# Altium schematic symbol library diodes-inc-opamp.SchLib: 5 symbols
Pins are listed as number, name and electrical type; pins without a type are passive.

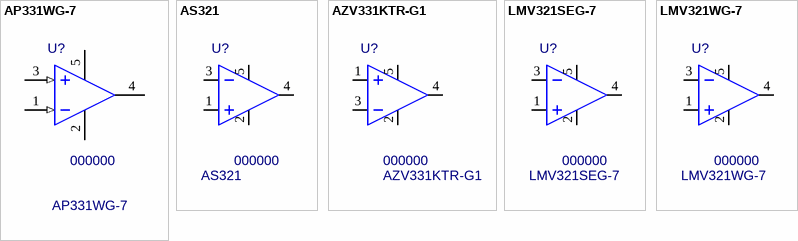
[diagram p0: symbols AP331WG-7 to LMV321WG-7]

## AP331WG-7
designator U?, comment 000000  value AP331WG-7
Single Differential Comparator; MF: Diodes Inc; Package: SOT23-5; PN: 000000; ExtraInfo: *
footprint SOT23-5-M (SOT23, 5-Leads, Body 3.0x3.0mm (max), Pitch 0.95mm, IPC Medium Density)
pins: 1 IN- (in), 2 GND (power), 3 IN+ (in), 4 OUT (oc), 5 VCC (power)

## AS321
designator U?, comment 000000  value AS321
General Purpose, 600KHz, 36V Operational Amplifier; MF PN: AS321KTR-G1; MF: Diodes Inc; Package: SOT25; PN: 000000; ExtraInfo: *; Price: 0.09846; Digi-Key PN: AS321KTR-G1DICT-ND
footprint SOT23-5-M (SOT23, 5-Leads, Body 3.0x3.0mm (max), Pitch 0.95mm, IPC Medium Density)
pins: 1 IN+, 2 V- (power), 3 IN-, 4 OUT, 5 V+ (power)

## AZV331KTR-G1
designator U?, comment 000000  value AZV331KTR-G1
Single Differential Comparator, %V, Open-Collector; MF: Diodes Inc; Package: SOT23-5; PN: 000000; ExtraInfo: *
footprint SOT23-5-M (SOT23, 5-Leads, Body 3.0x3.0mm (max), Pitch 0.95mm, IPC Medium Density)
pins: 1 IN+, 2 GND (power), 3 IN-, 4 OUT (oc), 5 VCC (power)

## LMV321SEG-7
designator U?, comment 000000  value LMV321SEG-7
General Purpose, Low Voltage, Rail-to-Rail Output Operational Amplifier; MF: Diodes Inc; Package: SOT-353; PN: 000000; ExtraInfo: *
footprint SOT-353 (SOT23, 5-Leads, Body 2.2x2.2mm (max), Pitch 0.65mm, IPC High Density)
pins: 1 IN+, 2 V- (power), 3 IN-, 4 OUT, 5 V+ (power)

## LMV321WG-7
designator U?, comment 000000  value LMV321WG-7
General Purpose, Low Voltage, Rail-to-Rail Output Operational Amplifier; MF: Diodes Inc; Package: SOT25; PN: 000000; ExtraInfo: *
footprint SOT23-5-M (SOT23, 5-Leads, Body 3.0x3.0mm (max), Pitch 0.95mm, IPC Medium Density)
pins: 1 IN+, 2 V- (power), 3 IN-, 4 OUT, 5 V+ (power)